# EAGLE library part 739-339/100-000 (library con-wago_739)
Serie 739, / Series 739, Leitereinführung (zur Platine) / Conductor entry angle (to PCB): 90 ° Farbe / Color: xxxx / xxxx Stand: 01.01.2012. Die jeweils aktuellen Daten zu diesem Artikel finden Sie in unserem Produktkatalog, den Sie unter www.wago.com einsehen können. As of: 01/01/2012. Please find the newest data for this article in our product catalogue, which can be viewed under www.wago.com.
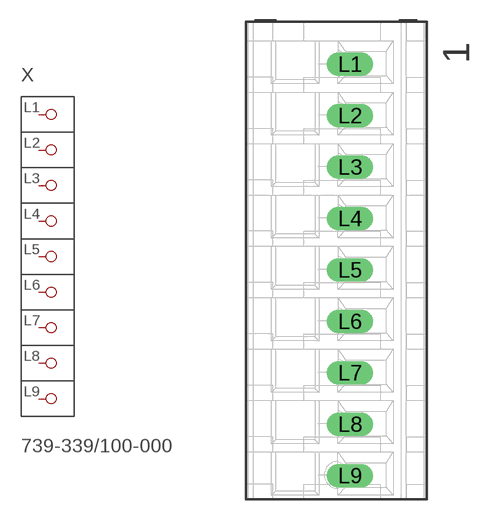
[diagram p27: symbol with the pads of P-739-339/100-000; footprint P-739-339/100-000]

Designator prefix X

## 739-339/100-000  [P-739-339/100-000]
L1  P1
L2  P2
L3  P3
L4  P4
L5  P5
L6  P6
L7  P7
L8  P8
L9  P9

## Footprint P-739-339/100-000 (pad centres in mm)
drill 1.15 long: L1 1,14.49; L2 1,10.68; L3 1,6.87; L4 1,3.06; L5 1,-0.75; L6 1,-4.56; L7 1,-8.37; L8 1,-12.18; L9 1,-15.99